# Altium schematic symbol library SHTC3-TR-2P5KS.SchLib: 1 symbol
Pins are listed as number, name and electrical type; pins without a type are passive.

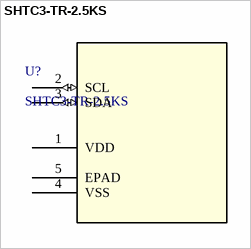
[diagram p0: symbol SHTC3-TR-2.5KS]

## SHTC3-TR-2.5KS
designator U?
Description; Manufacturer_Name: Sensirion; Copyright: Copyright (C) 2025 Ultra Librarian. All rights reserved.; Manufacturer_Part_Number: SHTC3-TR-2.5KS; RefDes: RefDes; Type: Type
footprint SHTC3_SEN
pins: 1 VDD (power), 2 SCL (io), 3 SDA (io), 4 VSS (power), 5 EPAD (power)